# EAGLE library part TYPE-C_16P_QTWT_LCSC (library lcsc_parts)
Description: USB-C (USB TYPE-C) Receptacle Connector 16 Position Surface Mount, Right Angle Manufacturer: SHOU HAN MPN: TYPE-C 16P QTWT LCSC Part: C5187472 Category: USB, DVI, HDMI Connector Assemblies Datasheet: https://datasheet.lcsc.com/datasheet/pdf/d3846d73123f7a78a150a5dc80fdd645.pdf?productCode=C5187472
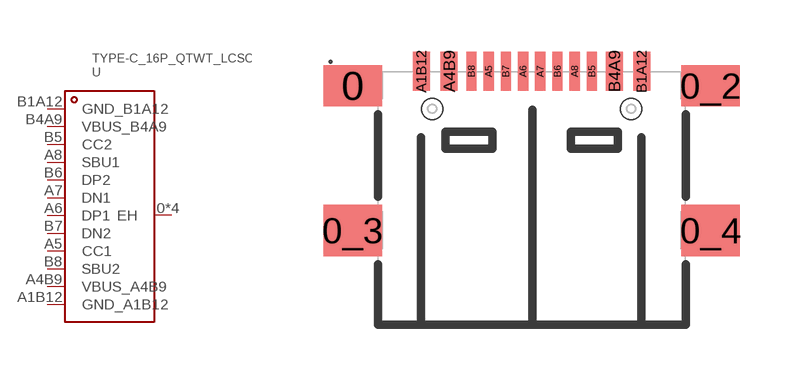
[diagram p26: symbol with the pads of USB-TYPE-C-SMD_TYPE-C-16P-QTWT; footprint USB-TYPE-C-SMD_TYPE-C-16P-QTWT]

Designator prefix U

## TYPE-C_16P_QTWT_LCSC (CATEGORY: USB, DVI, HDMI Connector Assemblies; CONNECTOR_TYPE: Type-C; CURRENT_RATING_POWER: 3A; DATASHEET: https://datasheet.lcsc.com/datasheet/pdf/d3846d73123f7a78a150a5dc80fdd645.pdf?productCode=C5187472; DESCRIPTION: USB-C (USB TYPE-C) Receptacle Connector 16 Position Surface Mount, Right Angle; GENDER: Female; LCSC_PART: C5187472; LCSC_STOCK: 66485; MANUFACTURER: SHOU HAN; MOUNTING_TYPE: Surface Mount, Right Angle; MPN: TYPE-C 16P QTWT; NUMBER_OF_CONTACTS: 16P; NUMBER_OF_PORTS: 1; OPERATING_TEMPERATURE: -25℃~+85℃; PARTNO: TYPE-C 16P QTWT; PRICING_1000: $0.0513/unit @ 1000; PRICING_50: $0.0696/unit @ 50; VOLTAGE_RATING: 5V)  [USB-TYPE-C-SMD_TYPE-C-16P-QTWT]
0  EH
0_2  EH
0_3  EH
0_4  EH
A1B12  GND_A1B12
A4B9  VBUS_A4B9
A5  CC1
A6  DP1
A7  DN1
A8  SBU1
B1A12  GND_B1A12
B4A9  VBUS_B4A9
B5  CC2
B6  DP2
B7  DN2
B8  SBU2

## Footprint USB-TYPE-C-SMD_TYPE-C-16P-QTWT (pad centres in mm)
smd 1.7 x 1.2: 0 -5.2,1.89; 0_2 5.2,1.89
smd 1.7 x 1.5: 0_3 -5.2,-2.31; 0_4 5.2,-2.31
smd 0.5 x 1.14: A1B12 -3.2,2.31; A4B9 -2.4,2.31; B1A12 3.2,2.31; B4A9 2.4,2.31
smd 0.3 x 1.14: A5 -1.25,2.31; A6 -0.25,2.31; A7 0.25,2.31; A8 1.25,2.31; B5 1.75,2.31; B6 0.75,2.31; B7 -0.75,2.31; B8 -1.75,2.31
hole 0.6 at 2.89,1.22
hole 0.6 at -2.89,1.22